# EAGLE library part NRF24 (library ATTAMI-V0.00)
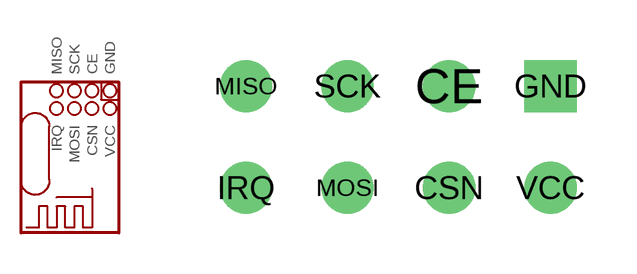
[diagram p2: symbol with the pads of NRF24-2X4; footprint NRF24-2X4]

Designator prefix -

## NRF24  [NRF24-2X4]
CE  CE
CSN  CSN
GND  GND
IRQ  IRQ
MISO  MISO
MOSI  MOSI
SCK  SCK
VCC  VCC

## Footprint NRF24-2X4 (pad centres in mm)
drill 0.8: CE -3.81,2.54; CSN -3.81,0; IRQ -8.89,0; MISO -8.89,2.54; MOSI -6.35,0; SCK -6.35,2.54; VCC -1.27,0
drill 0.8 square: GND -1.27,2.54